# Altium footprint library RoketAnaSistemPCBKütüphane.PcbLib: 41 footprints (part 1 of 3)
Each footprint in its own frame and in the unit in brackets; x right, y up, seen from the top. Pads: shape width x height; smd on the part's side, far side on the other; paste and mask are expansions set on the pad; w line width, h text height; cw(c..) or ccw(c..) is an arc to the next point about the centre after c.
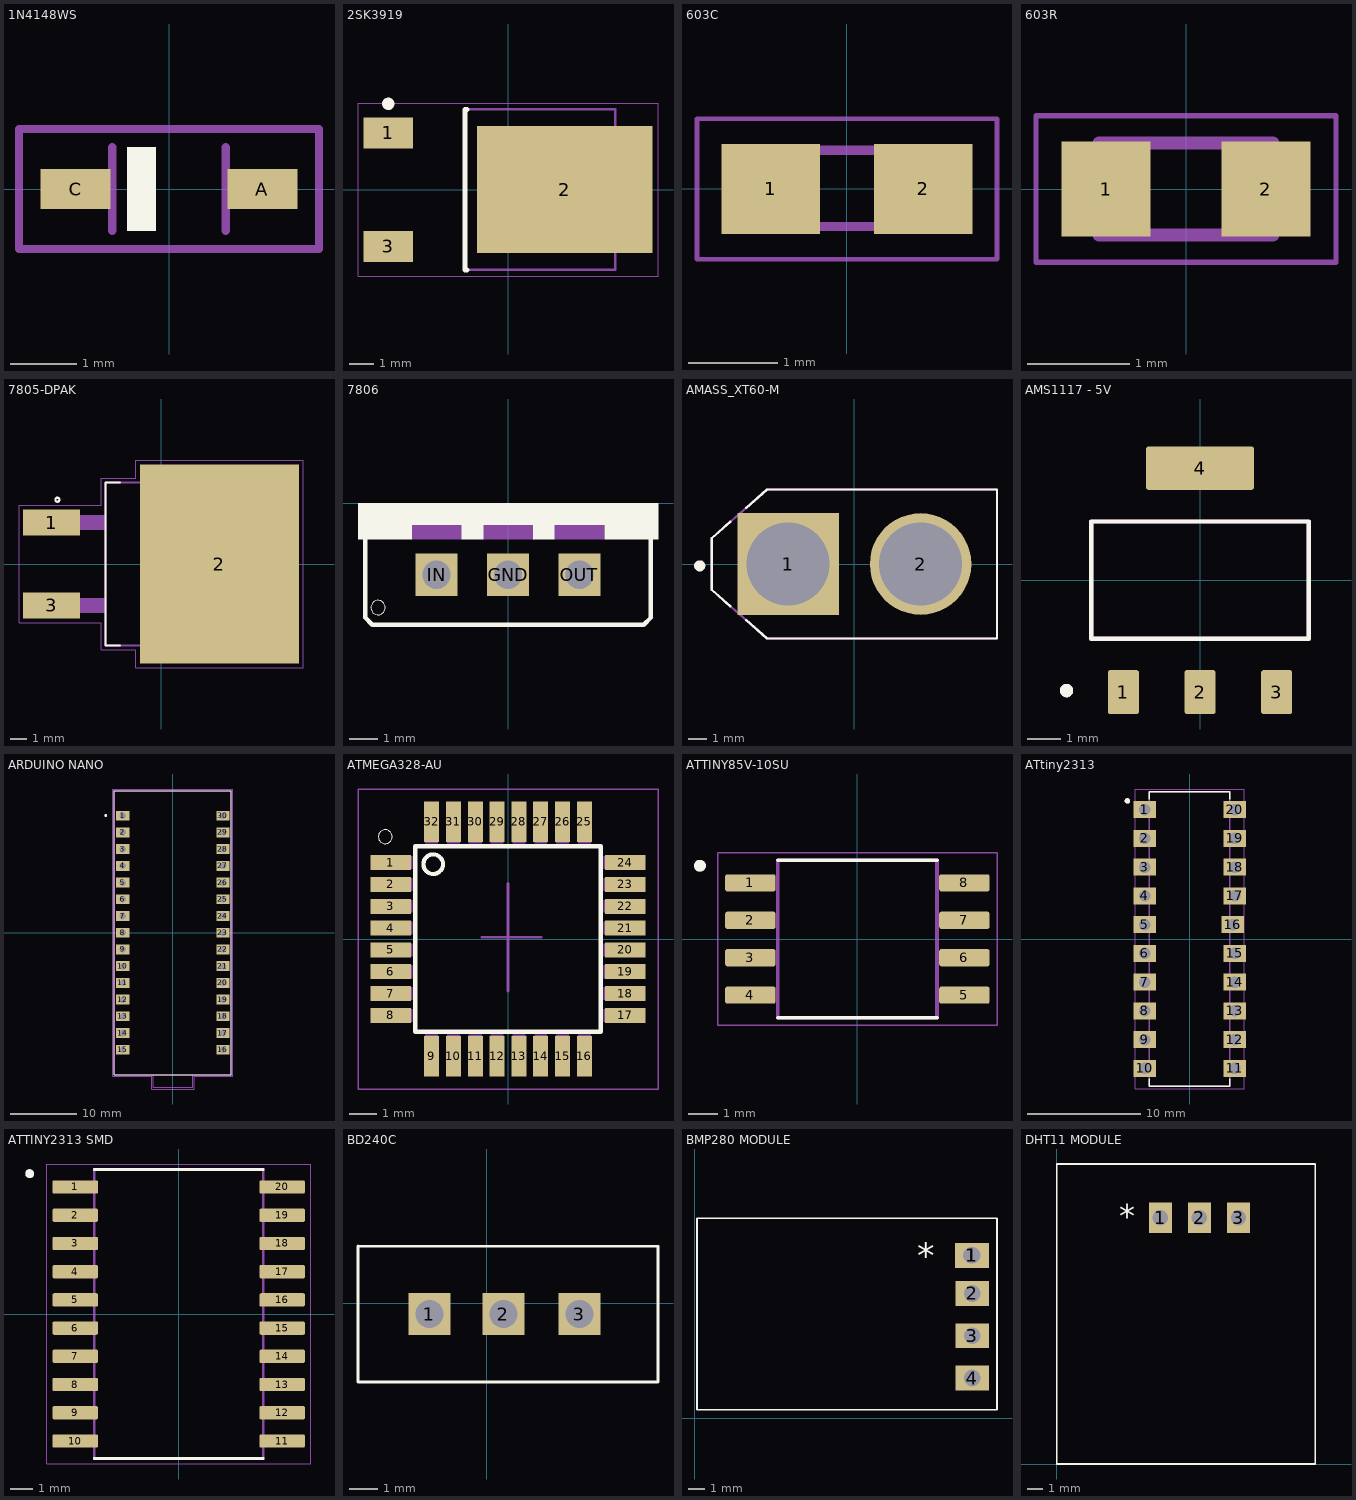
[diagram p0: the footprints below, top view; thin cyan lines are the x and y axes]

## 1N4148WS [mm] "SMD DIODE"
pads (2):
  rect 1.05x0.6 smd: A(1.4,0) C(-1.4,0)
Top Overlay:
  region: -0.2,-0.625 -0.625,-0.625 -0.625,0.625 -0.2,0.625
Mechanical 13:
  lines w0.127: -0.85,-0.625 -0.85,0.625 ; 0.85,-0.625 0.85,0.625
Mechanical 15:
  lines w0.127: -2.25,-0.9 -2.25,0.9 2.25,0.9 2.25,-0.9 -2.25,-0.9
3D body "step_temp.STEP": height 0.7, standoff -0.2, extent -0.625,-1.25 0.625,1.25

## 2SK3919 [mm] "D-PAK, 3-Pads, Body 6,15x6,61mm (max), IPC Medium Density"
height 2.31
pads (3):
  rect 2x1.25 smd: 1(-4.85,2.3) 3(-4.85,-2.3)
  rect 7.1x5.15 smd: 2(2.3,0)
Top Overlay:
  circle w0.25: c-4.85,3.475 r0.125
  lines w0.2: -1.65,-3.25 -1.75,-3.25 -1.75,3.25 -1.65,3.25
Mechanical 13:
  lines w0.1: -1.75,-3.25 4.35,-3.25 4.35,3.25 -1.75,3.25 -1.75,-3.25
Mechanical 15:
  lines w0.05: -6.075,-3.5 6.075,-3.5 6.075,3.5 -6.075,3.5 -6.075,-3.5
  lines w0.1: -0.5,0 0.5,0 ; 0,-0.5 0,0.5
3D body: height 2.31, standoff 0.5, extent -1.75,-3.25 4.35,3.25

## 603C [mm]
pads (2):
  rect 1.1x1 smd: 1(-0.85,0) 2(0.85,0)
Mechanical 13:
  lines w0.102: -0.356,-0.419 0.356,-0.419 ; -0.356,0.432 0.356,0.432
Mechanical 15:
  lines w0.051: -1.673,-0.783 1.673,-0.783 1.673,0.783 -1.673,0.783 -1.673,-0.783

## 603R [mm]
pads (2):
  rect 0.87x0.93 smd: 1(-0.78,0) 2(0.78,0)
Mechanical 13:
  lines w0.127: -0.85,-0.45 -0.85,0.45 0.85,0.45 0.85,-0.45 -0.85,-0.45
Mechanical 15:
  lines w0.05: -1.465,-0.715 -1.465,0.715 1.465,0.715 1.465,-0.715 -1.465,-0.715

## 7805-DPAK [mm] "SMD VOLTAGE REGULATOR"
pads (3):
  rect 3.5x1.6 smd: 1(-6.7,2.54) 3(-6.7,-2.54)
  rect 9.75x12.2 smd paste-7: 2(3.575,0)
Top Overlay:
  circle w0.127: c-6.35,3.937 r0.127
  lines w0.127: -2.515,-5 -3.4,-5 -3.4,5 -2.515,5
Top Paste:
  region: 7.22,0.295 5.85,0.295 5.85,1.765 7.22,1.765
  region: 7.22,-1.766 5.844,-1.766 5.844,-0.295 7.22,-0.295
  region: 5.25,-1.767 3.875,-1.767 3.875,-0.295 5.25,-0.295
  region: 5.25,0.295 3.876,0.295 3.876,1.765 5.25,1.765
  region: 5.25,2.362 3.874,2.362 3.874,3.83 5.25,3.83
  region: 7.22,2.362 5.844,2.362 5.844,3.83 7.22,3.83
  region: 5.25,-3.836 3.876,-3.836 3.876,-2.36 5.25,-2.36
  region: 7.22,-3.837 5.85,-3.837 5.85,-2.36 7.22,-2.36
  region: 1.31,-1.767 -0.07,-1.767 -0.07,-0.295 1.31,-0.295
  region: 1.31,0.296 -0.07,0.296 -0.07,1.765 1.31,1.765
  region: 3.28,0.295 1.902,0.295 1.902,1.765 3.28,1.765
  region: 3.28,-1.766 1.902,-1.766 1.902,-0.295 3.28,-0.295
  region: 3.28,-3.835 1.902,-3.835 1.902,-2.36 3.28,-2.36
  region: 1.31,-3.834 -0.07,-3.834 -0.07,-2.36 1.31,-2.36
  region: 3.28,2.362 1.901,2.362 1.901,3.83 3.28,3.83
  region: 1.31,2.362 -0.07,2.362 -0.07,3.83 1.31,3.83
Mechanical 13:
  region: -3.4,2.094 -8.215,2.094 -8.215,2.99 -3.4,2.99
  region: -3.4,-2.996 -8.216,-2.996 -8.216,-2.09 -3.4,-2.09
  lines w0.127: -3.4,-5 7.4,-5 7.4,5 -3.4,5 -3.4,-5
Mechanical 15:
  lines w0.05: -8.7,-3.6 -3.65,-3.6 -3.65,-5.25 -1.55,-5.25 -1.55,-6.35 8.7,-6.35 8.7,6.35 -1.55,6.35 -1.55,5.25 -3.65,5.25 -3.65,3.6 -8.7,3.6 -8.7,-3.6

## 7806 [mm] "TO 220 6V 1A"
pads (3):
  rect 1.5x1.5 hole 1: GND(0,-2.54) IN(-2.54,-2.54) OUT(2.54,-2.54)
Top Overlay:
  circle w0: c-4.623,-3.708 r0.254
  region: 5.334,-1.272 3.433,-1.272 3.433,0 5.334,0
  region: 3.429,-0.763 1.654,-0.763 1.654,0 3.429,0
  region: 1.651,-1.271 0.889,-1.271 0.889,0 1.651,0
  region: 0.889,-0.763 -0.891,-0.763 -0.891,0 0.889,0
  region: -0.889,-1.272 -1.654,-1.272 -1.654,0 -0.889,0
  region: -1.651,-0.763 -3.434,-0.763 -3.434,0 -1.651,0
  region: -3.429,-1.27 -5.336,-1.27 -5.336,0 -3.429,0
  lines w0.152: -5.08,-1.143 -5.08,-4.064 -4.826,-4.318 4.826,-4.318 5.08,-4.064 5.08,-1.143
Mechanical 13:
  region: 3.429,-1.271 1.653,-1.271 1.653,-0.762 3.429,-0.762
  region: 0.889,-1.27 -0.889,-1.27 -0.889,-0.762 0.889,-0.762
  region: -1.651,-1.273 -3.436,-1.273 -3.436,-0.762 -1.651,-0.762
  text "-" at -0.635,-3.812 h1.27

## AMASS_XT60-M [mm]
pads (2):
  rect 5.516x5.516 hole 4.5: 1(-3.6,0)
  round 5.516 hole 4.5: 2(3.6,0)
Top Overlay:
  circle w0.3: c-8.4,-0.1 r0.15
  lines w0.127: -6.73,-2.3 -7.75,-1.4 -7.75,1.4 -6.73,2.3 ; -5.88,-3.05 -4.75,-4.05 7.75,-4.05 7.75,4.05 -4.75,4.05 -5.88,3.05
Mechanical 13:
  lines w0.127: -7.75,-1.4 -4.75,-4.05 7.75,-4.05 7.75,4.05 -4.75,4.05 -7.75,1.4 -7.75,-1.4

## AMS1117 - 5V [mm] "SOT-223"
pads (4):
  rrect15% 0.93x1.31 smd: 1(-2.29,-3.345) 2(0,-3.345) 3(2.29,-3.345)
  rrect15% 3.24x1.31 smd: 4(0,3.345)
Top Overlay:
  circle w0.2: c-3.99,-3.3 r0.1
  lines w0.127: -3.253,-1.753 3.253,-1.753 3.253,1.753 -3.253,1.753 -3.253,-1.753
Mechanical 13:
  circle w0.2: c-3.99,-3.3 r0.1
  lines w0.127: -3.253,-1.753 3.253,-1.753 3.253,1.753 -3.253,1.753 -3.253,-1.753

## ARDUINO NANO [mm] "NANO MODULE"
pads (30):
  rect 2x1.5 hole 1: 1(-7.62,17.78) 2(-7.62,15.24) 3(-7.62,12.7) 4(-7.62,10.16) 5(-7.62,7.62) 6(-7.62,5.08) 7(-7.62,2.54) 8(-7.62,0) 9(-7.62,-2.54) 10(-7.62,-5.08) 11(-7.62,-7.62) 12(-7.62,-10.16) 13(-7.62,-12.7) 14(-7.62,-15.24) 15(-7.62,-17.78) 16(7.62,-17.78) 17(7.62,-15.24) 18(7.62,-12.7) 19(7.62,-10.16) 20(7.62,-7.62) 21(7.62,-5.08) 22(7.62,-2.54) 23(7.62,0) 24(7.62,2.54) 25(7.62,5.08) 26(7.62,7.62) 27(7.62,10.16) 28(7.62,12.7) 29(7.62,15.24) 30(7.62,17.78)
Top Overlay:
  circle w0.2: c-10.2,17.8 r0.1
  lines w0.127: -8.89,-21.59 -8.89,21.59 8.89,21.59 8.89,-21.59 -8.89,-21.59
Mechanical 13:
  circle w0.2: c-10.2,17.8 r0.1
  lines w0.127: -2.97,-21.59 -2.97,-23.495 3,-23.495 3,-21.59 ; -2.97,-21.59 -8.89,-21.59 -8.89,21.59 8.89,21.59 8.89,-21.59 3,-21.59 ; -2.97,-21.59 3,-21.59
Mechanical 15:
  lines w0.05: -9.14,-21.84 -3.22,-21.84 -3.22,-23.745 3.25,-23.745 3.25,-21.84 9.14,-21.84 9.14,21.84 -9.14,21.84 -9.14,-21.84

## ATMEGA328-AU [mm]
pads (32):
  rect 1.5x0.55 smd: 1(-4.3,2.8) 2(-4.3,2) 3(-4.3,1.2) 4(-4.3,0.4) 5(-4.3,-0.4) 6(-4.3,-1.2) 7(-4.3,-2) 8(-4.3,-2.8) 17(4.3,-2.8) 18(4.3,-2) 19(4.3,-1.2) 20(4.3,-0.4) 21(4.3,0.4) 22(4.3,1.2) 23(4.3,2) 24(4.3,2.8)
  rect 0.55x1.5 smd: 9(-2.8,-4.3) 10(-2,-4.3) 11(-1.2,-4.3) 12(-0.4,-4.3) 13(0.4,-4.3) 14(1.2,-4.3) 15(2,-4.3) 16(2.8,-4.3) 25(2.8,4.3) 26(2,4.3) 27(1.2,4.3) 28(0.4,4.3) 29(-0.4,4.3) 30(-1.2,4.3) 31(-2,4.3) 32(-2.8,4.3)
Top Overlay:
  circle w0.152: c-2.743,2.743 r0.359
  circle w0: c-4.5,3.75 r0.254
  lines w0.152: -3.4,-3.4 3.4,-3.4 3.4,3.4 -3.4,3.4 -3.4,-3.4
Mechanical 13:
  region: -3.506,2.577 -4.507,2.577 -4.507,3.029 -3.506,3.029
  region: -3.506,1.775 -4.505,1.775 -4.505,2.229 -3.506,2.229
  region: -3.506,0.975 -4.511,0.975 -4.511,1.429 -3.506,1.429
  region: -3.506,0.172 -4.5,0.172 -4.5,0.629 -3.506,0.629
  region: -3.506,-0.629 -4.503,-0.629 -4.503,-0.171 -3.506,-0.171
  region: -3.506,-1.432 -4.507,-1.432 -4.507,-0.971 -3.506,-0.971
  region: -3.506,-2.232 -4.503,-2.232 -4.503,-1.771 -3.506,-1.771
  region: -3.506,-3.036 -4.507,-3.036 -4.507,-2.571 -3.506,-2.571
  region: -2.571,-4.506 -3.035,-4.506 -3.035,-3.506 -2.571,-3.506
  region: -1.771,-4.5 -2.23,-4.5 -2.23,-3.506 -1.771,-3.506
  region: -0.971,-4.507 -1.432,-4.507 -1.432,-3.506 -0.971,-3.506
  region: -0.171,-4.509 -0.63,-4.509 -0.63,-3.506 -0.171,-3.506
  region: 0.629,-4.505 0.172,-4.505 0.172,-3.506 0.629,-3.506
  region: 1.429,-4.505 0.973,-4.505 0.973,-3.506 1.429,-3.506
  region: 2.229,-4.506 1.775,-4.506 1.775,-3.506 2.229,-3.506
  region: 3.029,-4.505 2.576,-4.505 2.576,-3.506 3.029,-3.506
  region: 4.497,-3.031 3.509,-3.031 3.509,-2.571 4.497,-2.571
  region: 4.497,-2.232 3.512,-2.232 3.512,-1.771 4.497,-1.771
  region: 4.497,-1.432 3.513,-1.432 3.513,-0.971 4.497,-0.971
  region: 4.497,-0.629 3.511,-0.629 3.511,-0.171 4.497,-0.171
  region: 4.497,0.172 3.51,0.172 3.51,0.629 4.497,0.629
  region: 4.497,0.973 3.513,0.973 3.513,1.429 4.497,1.429
  region: 4.497,1.778 3.519,1.778 3.519,2.229 4.497,2.229
  region: 4.497,2.578 3.514,2.578 3.514,3.029 4.497,3.029
  region: 3.029,3.514 2.577,3.514 2.577,4.497 3.029,4.497
  region: 2.229,3.513 1.775,3.513 1.775,4.497 2.229,4.497
  region: 1.429,3.513 0.973,3.513 0.973,4.497 1.429,4.497
  region: 0.629,3.513 0.172,3.513 0.172,4.497 0.629,4.497
  region: -0.171,3.517 -0.631,3.517 -0.631,4.497 -0.171,4.497
  region: -0.971,3.513 -1.432,3.513 -1.432,4.497 -0.971,4.497
  region: -1.771,3.512 -2.232,3.512 -2.232,4.497 -1.771,4.497
  region: -2.571,3.511 -3.033,3.511 -3.033,4.497 -2.571,4.497
Mechanical 15:
  lines w0.05: -5.5,-5.5 5.5,-5.5 5.5,5.5 -5.5,5.5 -5.5,-5.5
  lines w0.1: -0.953,0.064 1.206,0.064 0,0.064 ; 0,-1.905 0,2.032

## ATTINY85V-10SU [mm] "IC-85 MCU 8BIT 8KB FLASH 8SOIC"
pads (8):
  rrect25% 1.71x0.58 smd: 1(-3.63,1.905) 2(-3.63,0.635) 3(-3.63,-0.635) 4(-3.63,-1.905) 5(3.63,-1.905) 6(3.63,-0.635) 7(3.63,0.635) 8(3.63,1.905)
Top Overlay:
  circle w0.2: c-5.34,2.485 r0.1
  lines w0.127: -2.7,-2.675 2.7,-2.675 ; -2.7,2.675 2.7,2.675
Mechanical 13:
  circle w0.2: c-5.34,2.485 r0.1
  lines w0.127: -2.7,-2.675 -2.7,2.675 2.7,2.675 2.7,-2.675 -2.7,-2.675
Mechanical 15:
  lines w0.05: -4.735,-2.925 -4.735,2.925 4.735,2.925 4.735,-2.925 -4.735,-2.925

## ATtiny2313 [mm] "ATtiny2313A-PU 8-Bit 20MHz MCU DIP-20"
pads (20):
  rect 2x1.5 hole 1: 1(-3.969,11.43) 2(-3.969,8.89) 3(-3.969,6.35) 4(-3.969,3.81) 5(-3.969,1.27) 6(-3.969,-1.27) 7(-3.969,-3.81) 8(-3.969,-6.35) 9(-3.969,-8.89) 10(-3.969,-11.43) 11(3.969,-11.43) 12(3.969,-8.89) 13(3.969,-6.35) 14(3.969,-3.81) 15(3.969,-1.27) 16(3.81,1.27) 17(3.969,3.81) 18(3.969,6.35) 19(3.969,8.89) 20(3.969,11.43)
Top Overlay:
  circle w0.24: c-5.5,12.2 r0.12
  lines w0.127: -3.56,-12.36 -3.56,-12.99 3.56,-12.99 3.56,-12.36 ; -3.56,12.36 -3.56,12.99 3.56,12.99 3.56,12.36
Mechanical 13:
  circle w0.24: c-5.5,12.2 r0.12
  lines w0.127: -3.56,-12.99 -3.56,12.99 3.56,12.99 3.56,-12.99 -3.56,-12.99
Mechanical 15:
  lines w0.05: -4.83,-13.25 -4.83,13.25 4.83,13.25 4.83,-13.25 -4.83,-13.25

## ATTINY2313 SMD [mm] "SMD MICROCONTROLLER"
pads (20):
  rrect25% 2.05x0.6 smd: 1(-4.655,5.715) 2(-4.655,4.445) 3(-4.655,3.175) 4(-4.655,1.905) 5(-4.655,0.635) 6(-4.655,-0.635) 7(-4.655,-1.905) 8(-4.655,-3.175) 9(-4.655,-4.445) 10(-4.655,-5.715) 11(4.655,-5.715) 12(4.655,-4.445) 13(4.655,-3.175) 14(4.655,-1.905) 15(4.655,-0.635) 16(4.655,0.635) 17(4.655,1.905) 18(4.655,3.175) 19(4.655,4.445) 20(4.655,5.715)
Top Overlay:
  circle w0.2: c-6.705,6.315 r0.1
  lines w0.127: -3.8,-6.5 3.8,-6.5 ; -3.8,6.5 3.8,6.5
Mechanical 13:
  circle w0.2: c-6.705,6.315 r0.1
  lines w0.127: -3.8,-6.5 3.8,-6.5 3.8,6.5 -3.8,6.5 -3.8,-6.5
Mechanical 15:
  lines w0.05: -5.93,-6.75 5.93,-6.75 5.93,6.75 -5.93,6.75 -5.93,-6.75

## BD240C [mm] "TO 220"
pads (3):
  rect 1.5x1.5 hole 1: 1(-2.032,-0.381) 2(0.602,-0.381) 3(3.302,-0.381)
Top Overlay:
  lines w0.1: -4.572,2.032 6.098,2.032 6.098,-2.411 6.098,-2.792 ; -4.572,2.036 -4.572,-2.794 6.096,-2.794

## BMP280 MODULE [mm] "SENSOR MODULE"
pads (5):
  rect 2x1.5 hole 1: 1(16.601,9.777) 1(16.637,9.779) 2(16.637,7.493) 3(16.637,4.953) 4(16.637,2.413)
Top Overlay:
  lines w0.1: 0.127,0.508 18.127,0.508 18.127,12.008 0.127,12.008 0.127,0.508
  text "*" at 13.335,9.017 h1.52

## DHT11 MODULE [mm] "TEMPERATURE SENSOR MODULE"
pads (3):
  rect 1.5x2 hole 1: 1(6.731,16.002) 2(9.271,16.002) 3(11.811,16.002)
Top Overlay:
  lines w0.1: 0,0 16.8,0 16.8,19.5 0,19.5 0,0
  text "*" at 4.064,15.367 h1.52